# EAGLE library part 4X4 (library debauer_modules)
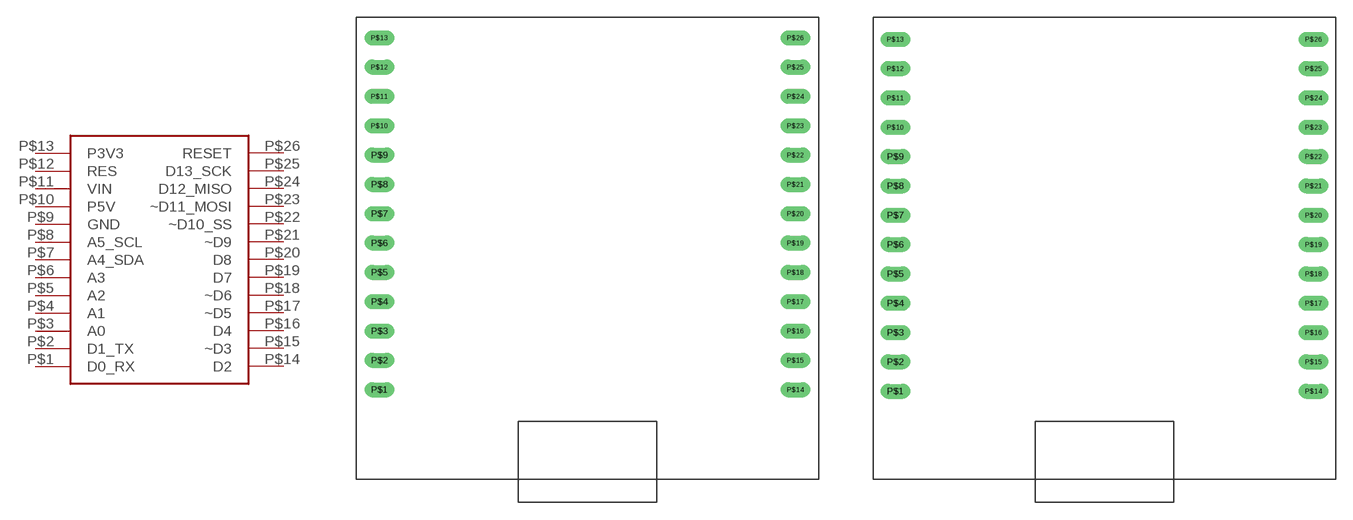
[diagram p3: symbol with the pads of 4X4; footprints 4X4, 4X4_IMP]

Designator prefix -

## 4X4METRISCH_ALT  [4X4]
P$1  D0_RX
P$2  D1_TX
P$3  A0
P$4  A1
P$5  A2
P$6  A3
P$7  A4_SDA
P$8  A5_SCL
P$9  GND
P$10  P5V
P$11  VIN
P$12  RES
P$13  P3V3
P$14  D2
P$15  ~D3
P$16  D4
P$17  ~D5
P$18  ~D6
P$19  D7
P$20  D8
P$21  ~D9
P$22  ~D10_SS
P$23  ~D11_MOSI
P$24  D12_MISO
P$25  D13_SCK
P$26  RESET

## 4X4IMPERIAL  [4X4_IMP]
Pads as for 4X4

## 4X4IMP_BIG  [4X4_IMP_BIG_HOLES]
Pads as for 4X4

## Footprint 4X4 (pad centres in mm)
drill 0.8 long: P$1 2,7.75; P$2 2,10.29; P$3 2,12.83; P$4 2,15.37; P$5 2,17.91; P$6 2,20.45; P$7 2,22.99; P$8 2,25.53; P$9 2,28.07; P$10 2,30.61; P$11 2,33.15; P$12 2,35.69; P$13 2,38.23; P$14 38,7.75; P$15 38,10.29; P$16 38,12.83; P$17 38,15.37; P$18 38,17.91; P$19 38,20.45; P$20 38,22.99; P$21 38,25.53; P$22 38,28.07; P$23 38,30.61; P$24 38,33.15; P$25 38,35.69; P$26 38,38.23

## Footprint 4X4_IMP (pad centres in mm)
drill 0.8 long: P$1 1.905,7.62; P$2 1.905,10.16; P$3 1.905,12.7; P$4 1.905,15.24; P$5 1.905,17.78; P$6 1.905,20.32; P$7 1.905,22.86; P$8 1.905,25.4; P$9 1.905,27.94; P$10 1.905,30.48; P$11 1.905,33.02; P$12 1.905,35.56; P$13 1.905,38.1; P$14 38.1,7.62; P$15 38.1,10.16; P$16 38.1,12.7; P$17 38.1,15.24; P$18 38.1,17.78; P$19 38.1,20.32; P$20 38.1,22.86; P$21 38.1,25.4; P$22 38.1,27.94; P$23 38.1,30.48; P$24 38.1,33.02; P$25 38.1,35.56; P$26 38.1,38.1

## Footprint 4X4_IMP_BIG_HOLES (pad centres in mm)
drill 1.4: P$1 2.223,7.62; P$2 2.223,10.16; P$3 2.223,12.7; P$4 2.223,15.24; P$5 2.223,17.78; P$6 2.223,20.32; P$7 2.223,22.86; P$8 2.223,25.4; P$9 2.223,27.94; P$10 2.223,30.48; P$11 2.223,33.02; P$12 2.223,35.56; P$13 2.223,38.1; P$14 37.782,7.62; P$15 37.782,10.16; P$16 37.782,12.7; P$17 37.782,15.24; P$18 37.782,17.78; P$19 37.782,20.32; P$20 37.782,22.86; P$21 37.782,25.4; P$22 37.782,27.94; P$23 37.782,30.48; P$24 37.782,33.02; P$25 37.782,35.56; P$26 37.782,38.1